# Altium schematic symbol library LKS034DO_Motor_0520.SCHLIB: 20 symbols
Pins are listed as number, name and electrical type; pins without a type are passive.

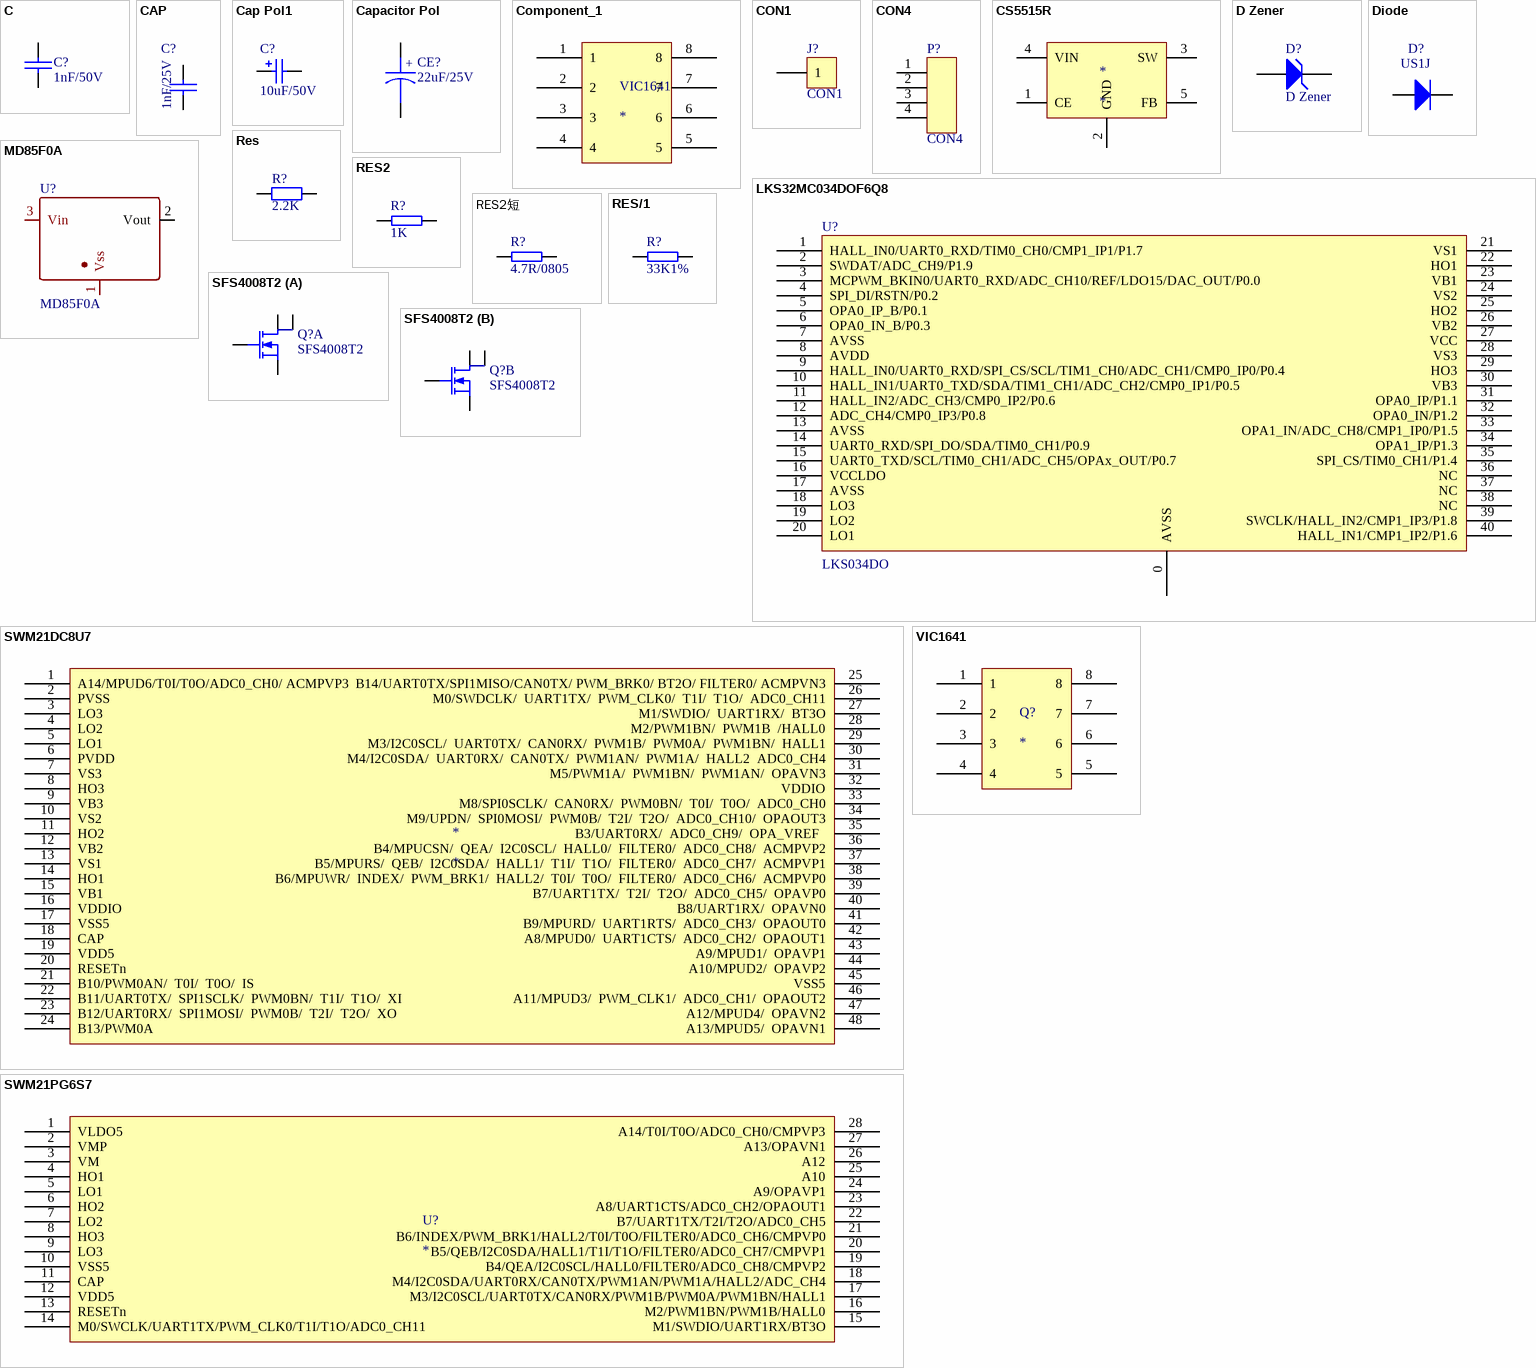
[diagram p0: symbols C to VIC1641]

## C
designator C?, comment 1nF/50V
Capacitor
footprint C5
footprint C7.5
footprint C10
footprint C12.5
footprint C0603
footprint 0402
pins: 1, 2
2 alternate drawings of the same symbol

## CAP
designator C?, comment 1nF/25V
Capacitor
footprint 0603A
footprint 0402
pins: 1, 2
2 alternate drawings of the same symbol

## Cap Pol1
designator C?, comment 10uF/50V
Polarized Capacitor (Radial); Value: 47uF/50V; Published: 8-Jun-2000; LatestRevisionDate: 17-Jul-2002; LatestRevisionNote: Re-released for DXP Platform.; PackageReference: RB7.6-15; Publisher: Altium Limited; = Value: 47uF/50V
footprint SMD6.3
footprint 0805C
footprint RB.12/.22
footprint F55
footprint 0805C
pins: 1, 2
2 alternate drawings of the same symbol

## Capacitor Pol
designator CE?, comment 22uF/25V
Capacitor---电解电容
footprint CE-7.5*16
footprint CE-7.5*18
footprint 220UF/16V 6.3*7.7
footprint 220UF/25V 8*10
footprint 220UF/63V 12.5*12.5 (贴片电解电容：高12cm*宽12cm)
footprint CAP 10*22*31.5 (脚距10mm直径22mm高度31.5mm)
footprint CAP 7.5*18*35.5 (脚距7.5mm直径18mm高度35.5mm)
footprint CAP 7.5*16*31.5 (脚距7.5mm直径16mm高度31.5mm)
footprint CAP 7.5*16*25 (脚距7.5mm直径16mm高度25mm)
footprint CAP 5.0*12.5*25 (脚距5mm直径12.5mm高度25mm)
footprint CAP 5.0*12.5*20 (脚距5mm直径12.5mm高度20mm)
footprint CAP 5.0*10*20 (脚距5mm直径10mm高度20mm)
footprint CAP 5.0*10*16 (脚距5mm直径10mm高度16mm)
footprint CAP 5.0*10*12.5 (脚距5mm直径10mm高度12.5mm)
footprint CAP 3.5*8*11.5 (脚距3.5mm直径8mm高度11.5mm)
footprint CAP 2.5*6.3*11.2 (脚距2.5mm直径6.3mm高度11.2mm)
footprint CAP 2.5*6.3*7 (脚距2.5mm直径6.3mm高度7mm)
footprint CAP 2.5*5*11 (脚距2.5mm直径5mm高度11mm)
footprint CAP 2.0*5*11 (脚距2mm直径5mm高度11mm)
footprint CAP 1.5*4*8 (脚距1.5mm直径4mm高度8mm)
footprint 0805C
pins: 1, 2
text: +

## Component_1
designator VIC1641
pins: 1, 2, 3, 4, 5, 6, 7, 8

## CON1
designator J?
Connector
footprint PAD1.2
pins: 1
2 alternate drawings of the same symbol

## CON4
designator P?
footprint 2.54-4P
pins: 1 (oc), 2 (oc), 3 (oc), 4 (oc)
2 alternate drawings of the same symbol

## CS5515R
designator *
pins: 1 CE, 2 GND, 3 SW, 4 VIN, 5 FB

## D Zener
designator D?
Zener Diode; Published: 8-Jun-2000; LatestRevisionDate: 17-Jul-2002; LatestRevisionNote: Re-released for DXP Platform.; PackageReference: DIODE-0.7; Publisher: Altium Limited
footprint SOD-523
pins: 1 A, 2 K

## Diode
designator D?, comment US1J
Default Diode; Published: 8-Jun-2000; LatestRevisionDate: 17-Jul-2002; LatestRevisionNote: Re-released for DXP Platform.; PackageDocument: Sep-1996; PackageReference: SMC; Publisher: Altium Limited; Code_JEDEC: DO-214-AB
footprint SMC
footprint D1808
footprint D1810
footprint D1206
footprint SOD-323
pins: 1 A, 2 K
2 alternate drawings of the same symbol

## LKS32MC034DOF6Q8
designator U?, comment LKS034DO
CHIP
footprint QFN40
footprint LINKO-084D
pins: 0 AVSS, 1 HALL_IN0/UART0_RXD/TIM0_CH0/CMP1_IP1/P1.7, 2 SWDAT/ADC_CH9/P1.9, 3 MCPWM_BKIN0/UART0_RXD/ADC_CH10/REF/LDO15/DAC_OUT/P0.0, 4 SPI_DI/RSTN/P0.2, 5 OPA0_IP_B/P0.1, 6 OPA0_IN_B/P0.3, 7 AVSS, 8 AVDD, 9 HALL_IN0/UART0_RXD/SPI_CS/SCL/TIM1_CH0/ADC_CH1/CMP0_IP0/P0.4, 10 HALL_IN1/UART0_TXD/SDA/TIM1_CH1/ADC_CH2/CMP0_IP1/P0.5, 11 HALL_IN2/ADC_CH3/CMP0_IP2/P0.6, 12 ADC_CH4/CMP0_IP3/P0.8, 13 AVSS, 14 UART0_RXD/SPI_DO/SDA/TIM0_CH1/P0.9, 15 UART0_TXD/SCL/TIM0_CH1/ADC_CH5/OPAx_OUT/P0.7, 16 VCCLDO, 17 AVSS, 18 LO3, 19 LO2, 20 LO1, 21 VS1, 22 HO1, 23 VB1, 24 VS2, 25 HO2, 26 VB2, 27 VCC, 28 VS3, 29 HO3, 30 VB3, 31 OPA0_IP/P1.1, 32 OPA0_IN/P1.2, 33 OPA1_IN/ADC_CH8/CMP1_IP0/P1.5, 34 OPA1_IP/P1.3, 35 SPI_CS/TIM0_CH1/P1.4, 36 NC, 37 NC, 38 NC, 39 SWCLK/HALL_IN2/CMP1_IP3/P1.8, 40 HALL_IN1/CMP1_IP2/P1.6

## MD85F0A
designator U?
footprint SOT89-3
pins: 1 Vss, 2 Vout, 3 Vin

## Res
designator R?, comment 2.2K
Resistor; Value: K; Published: 8-Jun-2000; LatestRevisionDate: 17-Jul-2002; LatestRevisionNote: Re-released for DXP Platform.; PackageReference: AXIAL-0.4; Publisher: Altium Limited; PackageDescription: Axial Device, Thru-Hole; 2 Leads; 0.4 in Pin Spacing
footprint 0402
footprint 0805R
footprint 1206R
footprint 0402R
footprint 1210
footprint 2512
pins: 1, 2

## RES2
designator R?, comment 1K
footprint 0402
pins: 1, 2
2 alternate drawings of the same symbol

## RES2短
designator R?, comment 4.7R/0805
footprint 0805R
pins: 1, 2

## RES/1
designator R?, comment 33K1%
footprint 0603
footprint 0402
footprint 0402
pins: 1, 2
2 alternate drawings of the same symbol

## SFS4008T2
designator Q?
footprint SOP8-8L
part A pins: 3 D1, 4 D1, 5 S1, 6 G1
part B pins: 1 D2, 2 D2, 7 S2, 8 G2

## SWM21DC8U7
designator *
pins: 1 A14/MPUD6/T0I/T0O/ADC0_CH0/ ACMPVP3, 2 PVSS, 3 LO3, 4 LO2, 5 LO1, 6 PVDD, 7 VS3, 8 HO3, 9 VB3, 10 VS2, 11 HO2, 12 VB2, 13 VS1, 14 HO1, 15 VB1, 16 VDDIO, 17 VSS5, 18 CAP, 19 VDD5, 20 RESETn, 21 B10/PWM0AN/  T0I/  T0O/  IS, 22 B11/UART0TX/  SPI1SCLK/  PWM0BN/  T1I/  T1O/  XI, 23 B12/UART0RX/  SPI1MOSI/  PWM0B/  T2I/  T2O/  XO, 24 B13/PWM0A, 25 B14/UART0TX/SPI1MISO/CAN0TX/ PWM_BRK0/ BT2O/ FILTER0/ ACMPVN3, 26 M0/SWDCLK/  UART1TX/  PWM_CLK0/  T1I/  T1O/  ADC0_CH11, 27 M1/SWDIO/  UART1RX/  BT3O, 28 M2/PWM1BN/  PWM1B  /HALL0, 29 M3/I2C0SCL/  UART0TX/  CAN0RX/  PWM1B/  PWM0A/  PWM1BN/  HALL1, 30 M4/I2C0SDA/  UART0RX/  CAN0TX/  PWM1AN/  PWM1A/  HALL2  ADC0_CH4, 31 M5/PWM1A/  PWM1BN/  PWM1AN/  OPAVN3, 32 VDDIO, 33 M8/SPI0SCLK/  CAN0RX/  PWM0BN/  T0I/  T0O/  ADC0_CH0, 34 M9/UPDN/  SPI0MOSI/  PWM0B/  T2I/  T2O/  ADC0_CH10/  OPAOUT3, 35 B3/UART0RX/  ADC0_CH9/  OPA_VREF  , 36 B4/MPUCSN/  QEA/  I2C0SCL/  HALL0/  FILTER0/  ADC0_CH8/  ACMPVP2, 37 B5/MPURS/  QEB/  I2C0SDA/  HALL1/  T1I/  T1O/  FILTER0/  ADC0_CH7/  ACMPVP1, 38 B6/MPUWR/  INDEX/  PWM_BRK1/  HALL2/  T0I/  T0O/  FILTER0/  ADC0_CH6/  ACMPVP0, 39 B7/UART1TX/  T2I/  T2O/  ADC0_CH5/  OPAVP0, 40 B8/UART1RX/  OPAVN0, 41 B9/MPURD/  UART1RTS/  ADC0_CH3/  OPAOUT0, 42 A8/MPUD0/  UART1CTS/  ADC0_CH2/  OPAOUT1, 43 A9/MPUD1/  OPAVP1, 44 A10/MPUD2/  OPAVP2, 45 VSS5, 46 A11/MPUD3/  PWM_CLK1/  ADC0_CH1/  OPAOUT2, 47 A12/MPUD4/  OPAVN2, 48 A13/MPUD5/  OPAVN1

## SWM21PG6S7
designator U?
pins: 1 VLDO5, 2 VMP, 3 VM, 4 HO1, 5 LO1, 6 HO2, 7 LO2, 8 HO3, 9 LO3, 10 VSS5, 11 CAP, 12 VDD5, 13 RESETn, 14 M0/SWCLK/UART1TX/PWM_CLK0/T1I/T1O/ADC0_CH11, 15 M1/SWDIO/UART1RX/BT3O, 16 M2/PWM1BN/PWM1B/HALL0, 17 M3/I2C0SCL/UART0TX/CAN0RX/PWM1B/PWM0A/PWM1BN/HALL1, 18 M4/I2C0SDA/UART0RX/CAN0TX/PWM1AN/PWM1A/HALL2/ADC_CH4, 19 B4/QEA/I2C0SCL/HALL0/FILTER0/ADC0_CH8/CMPVP2, 20 B5/QEB/I2C0SDA/HALL1/T1I/T1O/FILTER0/ADC0_CH7/CMPVP1, 21 B6/INDEX/PWM_BRK1/HALL2/T0I/T0O/FILTER0/ADC0_CH6/CMPVP0, 22 B7/UART1TX/T2I/T2O/ADC0_CH5, 23 A8/UART1CTS/ADC0_CH2/OPAOUT1, 24 A9/OPAVP1, 25 A10, 26 A12, 27 A13/OPAVN1, 28 A14/T0I/T0O/ADC0_CH0/CMPVP3

## VIC1641
designator Q?
pins: 1, 2, 3, 4, 5, 6, 7, 8